# EAGLE library part TMP275AIDR (library TMP275AIDR)
+/-0.5C Temperature Sensor with I2C/SMBus Interface in Industry Std LM75 Form Factor & Pinout Source: Datasheet <http://www.ti.com/lit/gpn/TMP275>
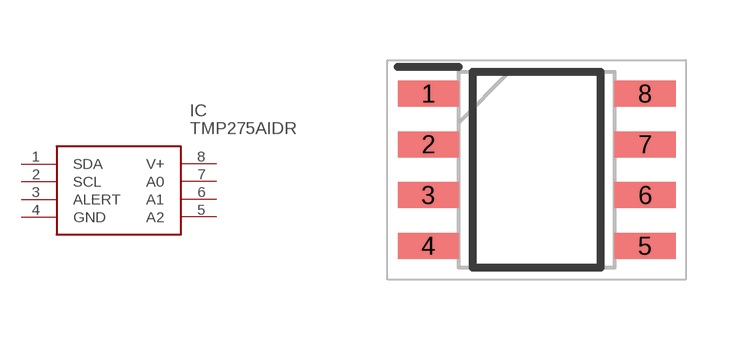
[diagram p0: symbol with the pads of SOIC127P600X175-8N; footprint SOIC127P600X175-8N]

Designator prefix IC

## TMP275AIDR (Description: +/-0.5C Temperature Sensor with I2C/SMBus Interface in Industry Std LM75 Form Factor & Pinout; Height: 1.75mm; Manufacturer_Name: Texas Instruments; Manufacturer_Part_Number: TMP275AIDR; Mouser_Part_Number: 595-TMP275AIDR; Mouser_Price-Stock: https://www.mouser.co.uk/ProductDetail/Texas-Instruments/TMP275AIDR?qs=7kv20MEVUlg8zTOvEWj%252BhA%3D%3D)  [SOIC127P600X175-8N]
1  SDA
2  SCL
3  ALERT
4  GND
5  A2
6  A1
7  A0
8  V+

## Footprint SOIC127P600X175-8N (pad centres in mm)
D0008A
smd 1.528 x 0.65: 1 -2.711,1.905; 2 -2.711,0.635; 3 -2.711,-0.635; 4 -2.711,-1.905; 5 2.711,-1.905; 6 2.711,-0.635; 7 2.711,0.635; 8 2.711,1.905